# EAGLE library part THERMOCOUPLE_AMPLIFIER_MAX31855_BREAKOUT_BOARD_MAX6675_UPGRADE_ (library Adafruit)
Thermocouple Amplifier MAX31855 breakout board (MAX6675 upgrade) Thermocouple Amplifier MAX31855 breakout board (MAX6675 upgrade) Further information:http://adafru.it/269 Cost:$14.95
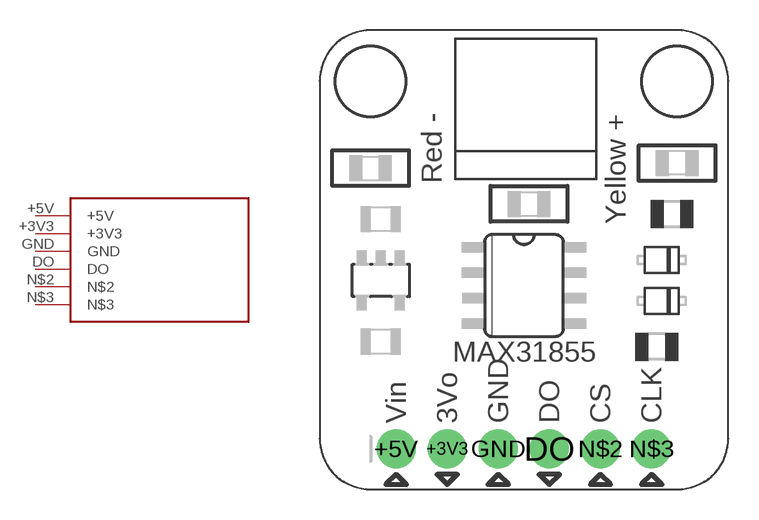
[diagram p4: symbol with the pads of THERMOCOUPLE_AMPLIFIER_MAX31855_BREAKOUT_BOARD_MAX6675_UPGRADE_; footprint THERMOCOUPLE_AMPLIFIER_MAX31855_BREAKOUT_BOARD_MAX6675_UPGRADE_]

Designator prefix -

## THERMOCOUPLE_AMPLIFIER_MAX31855_BREAKOUT_BOARD_MAX6675_UPGRADE_-BOB  [THERMOCOUPLE_AMPLIFIER_MAX31855_BREAKOUT_BOARD_MAX6675_UPGRADE_]
+3V3  +3V3
+5V  +5V
DO  DO
GND  GND
N$2  N$2
N$3  N$3

## Footprint THERMOCOUPLE_AMPLIFIER_MAX31855_BREAKOUT_BOARD_MAX6675_UPGRADE_ (pad centres in mm)
drill 1 pad 1.93: +3V3 6.35,2.032; +5V 3.81,2.032; DO 11.43,2.032; GND 8.89,2.032; N$2 13.97,2.032; N$3 16.51,2.032